# EAGLE library part LEITUNGSSCHUTZSCHALTER_3P (library pkess_sicherungen)
Leitungsschutzschalter
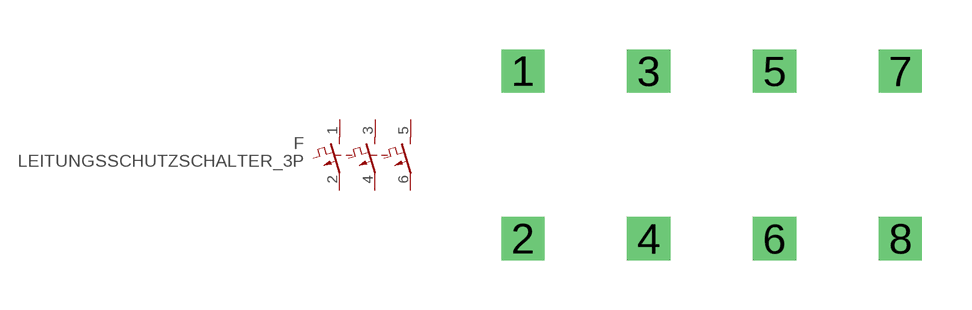
[diagram p1: symbol with the pads of GENERIC_1_2_3_4_5_6_7_8; footprint GENERIC_1_2_3_4_5_6_7_8]

Designator prefix F

## LEITUNGSSCHUTZSCHALTER_3P  [GENERIC_1_2_3_4_5_6_7_8]
1  1  pas
2  2  pas
3  3  pas
4  4  pas
5  5  pas
6  6  pas

## Footprint GENERIC_1_2_3_4_5_6_7_8 (pad centres in mm)
drill 0.8 square: 1 0,0; 2 0,-5.08; 3 3.81,0; 4 3.81,-5.08; 5 7.62,0; 6 7.62,-5.08; 7 11.43,0; 8 11.43,-5.08